# Altium footprint library SMD.PcbLib: 86 footprints (part 5 of 6)
Each footprint in its own frame and in the unit in brackets; x right, y up, seen from the top. Pads: shape width x height; smd on the part's side, far side on the other; paste and mask are expansions set on the pad; w line width, h text height; cw(c..) or ccw(c..) is an arc to the next point about the centre after c.
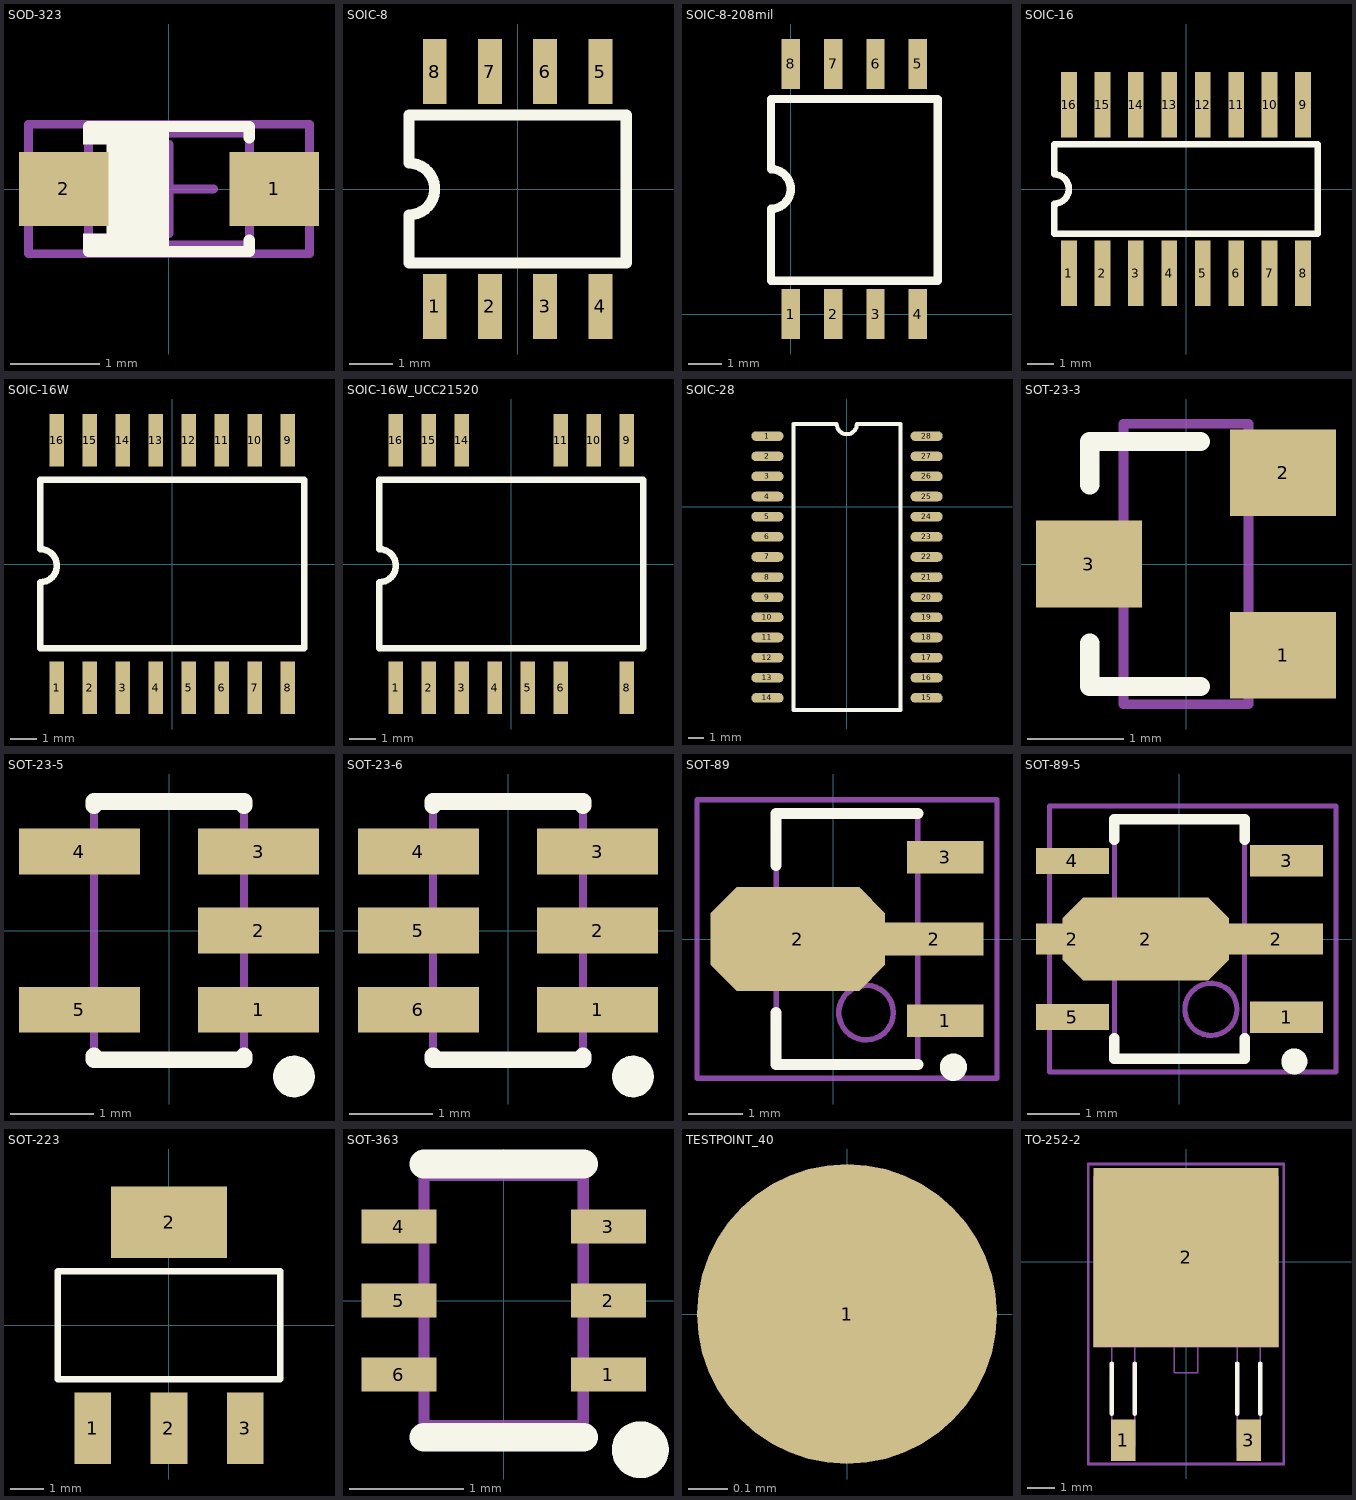
[diagram p4: the footprints below, top view; thin cyan lines are the x and y axes]

## SOD-323 [mm] "SOD-323(0805) Package"
height 1.15
pads (2):
  rect 1x0.83 smd: 1(1.18,0) 2(-1.18,0)
Top Overlay:
  region: 0,0.7 -0.7,0.7 -0.7,-0.7 0,-0.7
  region: -0.413,-0.5 -0.963,-0.5 -0.963,-0.7 -0.413,-0.7
  region: -0.413,0.7 -0.963,0.7 -0.963,0.5 -0.413,0.5
  lines w0.127: -0.9,-0.575 -0.9,-0.7 0.9,-0.7 0.9,-0.575 ; -0.9,0.575 -0.9,0.7 0.9,0.7 0.9,0.575
Mechanical 13:
  lines w0.1: -0.9,-0.625 -0.9,0.625 0.9,0.625 0.9,-0.625 -0.9,-0.625
Mechanical 15:
  lines w0.1: -0.5,0 0.5,0 ; 0,-0.5 0,0.5 ; -1.575,-0.725 1.575,-0.725 1.575,0.725 -1.575,0.725 -1.575,-0.725
3D body "User Library-SOD323.step": height 1.1, standoff 0, extent -1.35,-0.625 1.35,0.625

## SOIC-8 [mm]
pads (8):
  rect 0.55x1.5 smd: 1(-1.905,-2.7) 2(-0.635,-2.7) 3(0.635,-2.7) 4(1.905,-2.7) 5(1.905,2.7) 6(0.635,2.7) 7(-0.635,2.7) 8(-1.905,2.7)
Top Overlay:
  lines w0.254: -2.5,1.7 -2.5,0.595 cw(c-2.5,0) -2.5,-0.595 -2.5,-1.7 2.5,-1.7 2.5,1.7 -2.46,1.7
3D body "User Library-SOP-8.step": height 1.45, standoff 0, extent -2.451,-2.921 2.451,2.857

## SOIC-8-208mil [mm] "4.90 mm × 3.9 mm"
height 1.75
pads (8):
  rect 0.55x1.5 smd: 1(0,0) 2(1.27,0) 3(2.54,0) 4(3.81,0) 5(3.81,7.5) 6(2.54,7.5) 7(1.27,7.5) 8(0,7.5)
Top Overlay:
  lines w0.254: -0.595,1 -0.595,3.155 ccw(c-0.595,3.75) -0.595,4.345 -0.595,6.45 4.405,6.45 4.405,1 -0.595,1

## SOIC-16 [mm]
pads (16):
  rect 0.6x2.5 smd: 1(-4.445,-3.2) 2(-3.175,-3.2) 3(-1.905,-3.2) 4(-0.635,-3.2) 5(0.635,-3.2) 6(1.905,-3.2) 7(3.175,-3.2) 8(4.445,-3.2) 9(4.445,3.2) 10(3.175,3.2) 11(1.905,3.2) 12(0.635,3.2) 13(-0.635,3.2) 14(-1.905,3.2) 15(-3.175,3.2) 16(-4.445,3.2)
Top Overlay:
  lines w0.254: -5,-1.7 5,-1.7 5,1.7 -5,1.7 -5,0.555 cw(c-5,0) -5,-0.555 -5,-1.7
3D body "User Library-SOP-16.step": height 1.45, standoff 0, extent -4.978,-2.946 5.004,2.959

## SOIC-16W [mil]
pads (16):
  rect 22x80 smd: 1(-175,-187.5) 2(-125,-187.5) 3(-75,-187.5) 4(-25,-187.5) 5(25,-187.5) 6(75,-187.5) 7(125,-187.5) 8(175,-187.5) 9(175,187.5) 10(125,187.5) 11(75,187.5) 12(25,187.5) 13(-25,187.5) 14(-75,187.5) 15(-125,187.5) 16(-175,187.5)
Top Overlay:
  lines w10: -200,-127.5 -200,-27.5 ccw(c-200,-2.5) -200,22.5 -200,127.5 200,127.5 200,-127.5 -200,-127.5
3D body "User Library-SOP-16.step": height 57, standoff 0, extent -196,-116 197,116.5

## SOIC-16W_UCC21520 [mil]
pads (13):
  rect 22x80 smd: 1(-175,-187.5) 2(-125,-187.5) 3(-75,-187.5) 4(-25,-187.5) 5(25,-187.5) 6(75,-187.5) 8(175,-187.5) 9(175,187.5) 10(125,187.5) 11(75,187.5) 14(-75,187.5) 15(-125,187.5) 16(-175,187.5)
Top Overlay:
  lines w10: -200,-127.5 200,-127.5 200,127.5 -200,127.5 -200,22.5 cw(c-200,-2.5) -200,-27.5 -200,-127.5
3D body "User Library-SOP-16.step": height 57, standoff 0, extent -196,-116 197,116.5

## SOIC-28 [mil]
pads (28):
  oval 80x24 smd: 1(-197.5,175) 2(-197.5,125) 3(-197.5,75) 4(-197.5,25) 5(-197.5,-25) 6(-197.5,-75) 7(-197.5,-125) 8(-197.5,-175) 9(-197.5,-225) 10(-197.5,-275) 11(-197.5,-325) 12(-197.5,-375) 13(-197.5,-425) 14(-197.5,-475) 15(197.5,-475) 16(197.5,-425) 17(197.5,-375) 18(197.5,-325) 19(197.5,-275) 20(197.5,-225) 21(197.5,-175) 22(197.5,-125) 23(197.5,-75) 24(197.5,-25) 25(197.5,25) 26(197.5,75) 27(197.5,125) 28(197.5,175)
Top Overlay:
  lines w10: -132.5,-505 132.5,-505 132.5,205 24.5,205 cw(c-0.5,205) -25.5,205 -132.5,205 -132.5,-505

## SOT-23-3 [mm] "SOT-23; 3 Leads; Body 3.0 x 2.5 mm, inc. leads (LxW max)"
height 1.35
pads (3):
  rect 1.1x0.9 smd: 1(1.01,-0.95) 2(1.01,0.95) 3(-1.01,0)
Top Overlay:
  lines w0.2: -1,-0.825 -1,-1.275 0.15,-1.275 ; -1,0.825 -1,1.275 0.15,1.275
Mechanical 13:
  lines w0.1: -0.65,-1.46 -0.65,1.46 0.65,1.46 0.65,-1.46 -0.65,-1.46
3D body "SOT-23.step": height 1.3, standoff 0, extent -1.5,-1.5 1.5,1.5

## SOT-23-5 [mm] "SOT-23/SC-74A; 5 Leads; Body 3.1 x 3 mm, inc. leads (LxW max)"
height 1.45
pads (5):
  rect 1.45x0.55 smd: 1(1.075,-0.95) 2(1.075,0) 3(1.075,0.95) 4(-1.075,0.95) 5(-1.075,-0.95)
Top Overlay:
  circle w0.25: c1.5,-1.75 r0.125
  lines w0.2: -0.9,-1.5 -0.9,-1.55 0.9,-1.55 0.9,-1.5 ; -0.9,1.5 -0.9,1.55 0.9,1.55 0.9,1.5
Mechanical 13:
  lines w0.1: -0.9,-1.55 0.9,-1.55 0.9,1.55 -0.9,1.55 -0.9,-1.55
3D body "User Library-SOT23-5.step": height 1.45, standoff 0, extent -1.403,-1.448 1.397,1.452

## SOT-23-6 [mm] "SOT-23/SC-74A; 5 Leads; Body 3.1 x 3 mm, inc. leads (LxW max)"
height 1.45
pads (6):
  rect 1.45x0.55 smd: 1(1.075,-0.95) 2(1.075,0) 3(1.075,0.95) 4(-1.075,0.95) 5(-1.075,0) 6(-1.075,-0.95)
Top Overlay:
  circle w0.25: c1.5,-1.75 r0.125
  lines w0.2: -0.9,-1.5 -0.9,-1.55 0.9,-1.55 0.9,-1.5 ; -0.9,1.5 -0.9,1.55 0.9,1.55 0.9,1.5
Mechanical 13:
  lines w0.1: -0.9,-1.55 0.9,-1.55 0.9,1.55 -0.9,1.55 -0.9,-1.55
3D body "User Library-SOT23-5.step": height 1.45, standoff 0, extent -1.403,-1.448 1.397,1.452

## SOT-89 [mm] "SOT-89-3L SMT PACKAGE"
height 1.6
pads (4):
  rect 1.4x0.6 smd: 1(2.054,-1.5) 3(2.054,1.5)
  oct 3.2x1.9 smd: 2(-0.646,0)
  rect 1.8x0.6 smd: 2(1.854,0)
Top Overlay:
  circle w0.25: c2.204,-2.35 r0.125
  lines w0.2: -1.046,-1.35 -1.046,-2.3 1.554,-2.3 ; -1.046,1.35 -1.046,2.3 1.554,2.3
Mechanical 13:
  circle w0.1: c0.604,-1.35 r0.5
  lines w0.1: -1.046,-2.3 1.554,-2.3 1.554,2.3 -1.046,2.3 -1.046,-2.3
Mechanical 15:
  lines w0.1: -0.246,0 0.754,0 ; 0.254,-0.5 0.254,0.5 ; -2.496,-2.55 3.004,-2.55 3.004,2.55 -2.496,2.55 -2.496,-2.55
3D body "User Library-SOT89.STEP": height 1.57, standoff -0.04, extent -1.71,-2.3 2.54,2.3

## SOT-89-5 [mm] "SOT-89-5L SMT PACKAGE"
height 1.6
pads (7):
  rect 1.4x0.6 smd: 1(2.054,-1.5) 2(-2.054,0) 3(2.054,1.5)
  oct 3.2x1.6 smd: 2(-0.646,0)
  rect 1.8x0.6 smd: 2(1.854,0)
  rect 1.4x0.5 smd: 4(-2.054,1.5) 5(-2.054,-1.5)
Top Overlay:
  circle w0.25: c2.204,-2.35 r0.125
  lines w0.2: -1.25,-1.9 -1.25,-2.3 1.25,-2.3 1.25,-1.9 ; -1.25,1.9 -1.25,2.3 1.25,2.3 1.25,1.9
Mechanical 13:
  circle w0.1: c0.604,-1.35 r0.5
  lines w0.1: -1.25,-2.3 -1.25,2.3 1.25,2.3 1.25,-2.3 -1.25,-2.3
Mechanical 15:
  lines w0.1: -0.246,0 0.754,0 ; 0.254,-0.5 0.254,0.5 ; -2.496,-2.55 -2.496,2.55 3.004,2.55 3.004,-2.55 -2.496,-2.55
3D body "User Library-SOT89-5.step": height 1.54, standoff 0, extent -2.25,-2.25 2.25,2.25

## SOT-223 [mm]
pads (4):
  rect 1.1x2.15 smd: 1(-2.3,-3.1) 2(0,-3.1) 3(2.3,-3.1)
  rect 3.5x2.15 smd: 2(0,3.1)
Top Overlay:
  lines w0.2: -3.35,-1.625 3.35,-1.625 3.35,1.625 -3.35,1.625 -3.35,-1.625
3D body "User Library-AMS1117-SOT223.step": height 1.82, standoff -0.04, extent -3.25,-3.469 3.25,3.531

## SOT-363 [mm]
pads (6):
  rect 0.66x0.3 smd: 1(0.92,-0.65) 2(0.92,0) 3(0.92,0.65) 4(-0.92,0.65) 5(-0.92,0) 6(-0.92,-0.65)
Top Overlay:
  circle w0.25: c1.2,-1.31 r0.125
  lines w0.254: -0.7,-1.2 0.7,-1.2 ; -0.7,1.2 0.7,1.2
Mechanical 13:
  lines w0.1: -0.7,-1.1 -0.7,1.1 0.7,1.1 0.7,-1.1 -0.7,-1.1
3D body "User Library-SC70-6.step": height 0.92, standoff -0.03, extent -1.05,-1 1.05,1

## TESTPOINT_40 [mil] "SMT Test Point"
pads (1):
  round 30 smd: 1(0,0)

## TO-252-2 [mil] "TO-252-2,TD03B"
pads (3):
  rect 35x60 smd: 1(-89.96,-256) 3(89.96,-256)
  rect 265x256 smd: 2(0,6)
Top Overlay:
  lines w6: -106.46,-218 -106.46,-146 ; -73.46,-218 -73.46,-146 ; 73.46,-218 73.46,-146 ; 106.46,-218 106.46,-146
Mechanical 13:
  lines w2: -16.5,-122 -16.5,-159 16.5,-159 16.5,-122 ; -132.5,-122 -132.5,122 132.5,122 132.5,-122 -132.5,-122 ; -106.46,-266 -73.46,-266 -73.46,-122 -106.46,-122 -106.46,-266 ; 73.46,-266 106.46,-266 106.46,-122 73.46,-122 73.46,-266
Mechanical 15:
  lines w3.94: -19.68,0 19.68,0 ; 0,-19.68 0,19.68 ; -140,-290 140,-290 140,140 -140,140 -140,-290
3D body "User Library-TO-252AA-DPAK.step": height 93.31, standoff -1.18, extent -132.56,-270 132.56,127.64